# EAGLE library part EFM32_QGP100 (library LIBRARY)
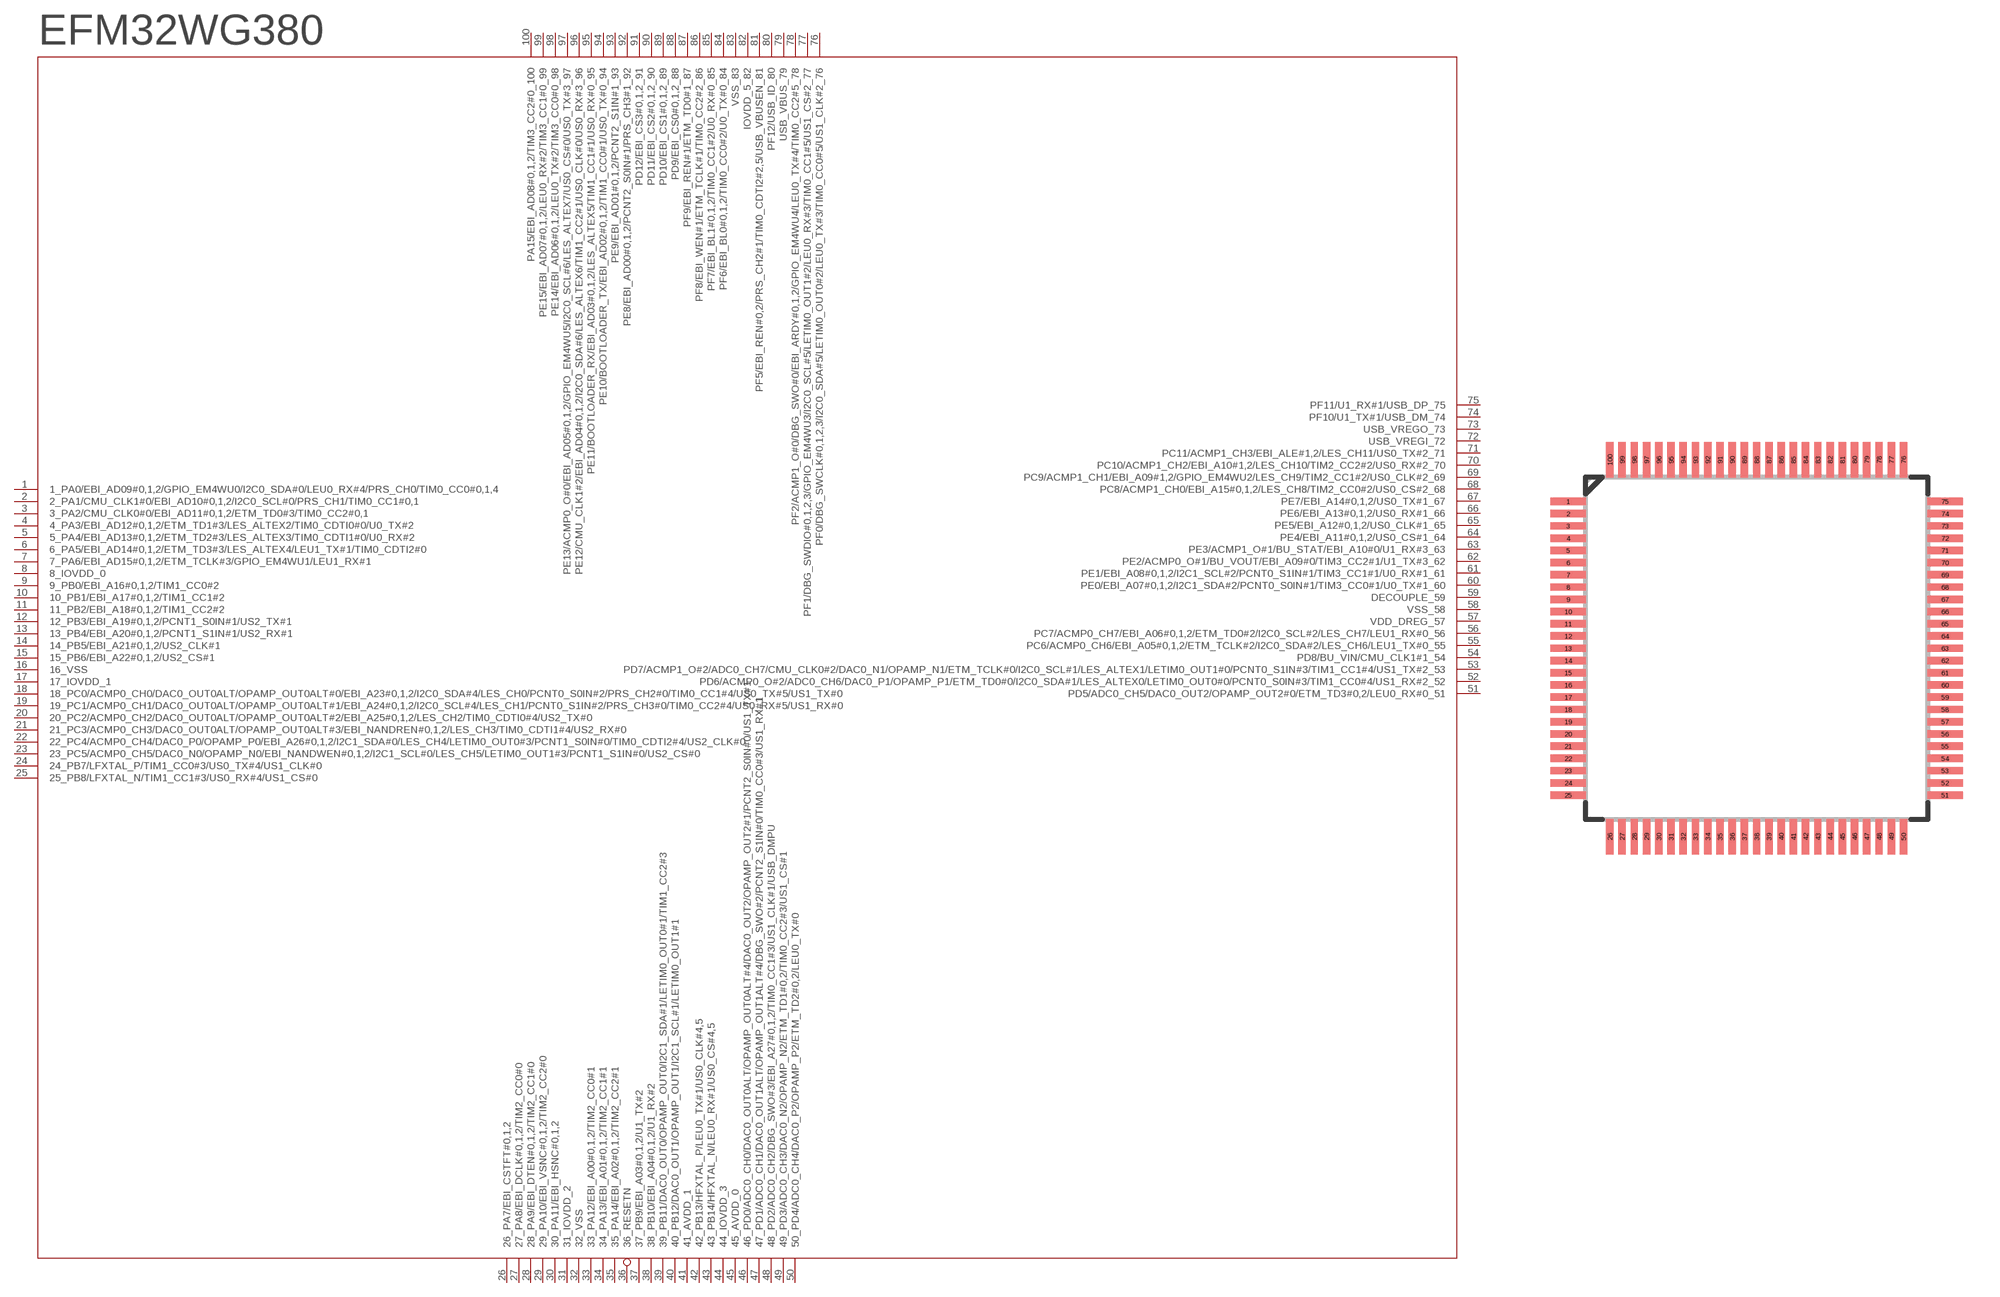
[diagram p9: symbol with the pads of EFM32_QFP100; footprint EFM32_QFP100]

Designator prefix -

## EFM32_QGP100  [EFM32_QFP100]
1  1_PA0/EBI_AD09#0,1,2/GPIO_EM4WU0/I2C0_SDA#0/LEU0_RX#4/PRS_CH0/TIM0_CC0#0,1,4
2  2_PA1/CMU_CLK1#0/EBI_AD10#0,1,2/I2C0_SCL#0/PRS_CH1/TIM0_CC1#0,1
3  3_PA2/CMU_CLK0#0/EBI_AD11#0,1,2/ETM_TD0#3/TIM0_CC2#0,1
4  4_PA3/EBI_AD12#0,1,2/ETM_TD1#3/LES_ALTEX2/TIM0_CDTI0#0/U0_TX#2
5  5_PA4/EBI_AD13#0,1,2/ETM_TD2#3/LES_ALTEX3/TIM0_CDTI1#0/U0_RX#2
6  6_PA5/EBI_AD14#0,1,2/ETM_TD3#3/LES_ALTEX4/LEU1_TX#1/TIM0_CDTI2#0
7  7_PA6/EBI_AD15#0,1,2/ETM_TCLK#3/GPIO_EM4WU1/LEU1_RX#1
8  8_IOVDD_0  pwr
9  9_PB0/EBI_A16#0,1,2/TIM1_CC0#2
10  10_PB1/EBI_A17#0,1,2/TIM1_CC1#2
11  11_PB2/EBI_A18#0,1,2/TIM1_CC2#2
12  12_PB3/EBI_A19#0,1,2/PCNT1_S0IN#1/US2_TX#1
13  13_PB4/EBI_A20#0,1,2/PCNT1_S1IN#1/US2_RX#1
14  14_PB5/EBI_A21#0,1,2/US2_CLK#1
15  15_PB6/EBI_A22#0,1,2/US2_CS#1
16  16_VSS  pwr
17  17_IOVDD_1  pwr
18  18_PC0/ACMP0_CH0/DAC0_OUT0ALT/OPAMP_OUT0ALT#0/EBI_A23#0,1,2/I2C0_SDA#4/LES_CH0/PCNT0_S0IN#2/PRS_CH2#0/TIM0_CC1#4/US0_TX#5/US1_TX#0
19  19_PC1/ACMP0_CH1/DAC0_OUT0ALT/OPAMP_OUT0ALT#1/EBI_A24#0,1,2/I2C0_SCL#4/LES_CH1/PCNT0_S1IN#2/PRS_CH3#0/TIM0_CC2#4/US0_RX#5/US1_RX#0
20  20_PC2/ACMP0_CH2/DAC0_OUT0ALT/OPAMP_OUT0ALT#2/EBI_A25#0,1,2/LES_CH2/TIM0_CDTI0#4/US2_TX#0
21  21_PC3/ACMP0_CH3/DAC0_OUT0ALT/OPAMP_OUT0ALT#3/EBI_NANDREN#0,1,2/LES_CH3/TIM0_CDTI1#4/US2_RX#0
22  22_PC4/ACMP0_CH4/DAC0_P0/OPAMP_P0/EBI_A26#0,1,2/I2C1_SDA#0/LES_CH4/LETIM0_OUT0#3/PCNT1_S0IN#0/TIM0_CDTI2#4/US2_CLK#0
23  23_PC5/ACMP0_CH5/DAC0_N0/OPAMP_N0/EBI_NANDWEN#0,1,2/I2C1_SCL#0/LES_CH5/LETIM0_OUT1#3/PCNT1_S1IN#0/US2_CS#0
24  24_PB7/LFXTAL_P/TIM1_CC0#3/US0_TX#4/US1_CLK#0
25  25_PB8/LFXTAL_N/TIM1_CC1#3/US0_RX#4/US1_CS#0
26  26_PA7/EBI_CSTFT#0,1,2
27  27_PA8/EBI_DCLK#0,1,2/TIM2_CC0#0
28  28_PA9/EBI_DTEN#0,1,2/TIM2_CC1#0
29  29_PA10/EBI_VSNC#0,1,2/TIM2_CC2#0
30  30_PA11/EBI_HSNC#0,1,2
31  31_IOVDD_2  pwr
32  32_VSS  pwr
33  33_PA12/EBI_A00#0,1,2/TIM2_CC0#1
34  34_PA13/EBI_A01#0,1,2/TIM2_CC1#1
35  35_PA14/EBI_A02#0,1,2/TIM2_CC2#1
36  36_RESETN  pas
37  37_PB9/EBI_A03#0,1,2/U1_TX#2
38  38_PB10/EBI_A04#0,1,2/U1_RX#2
39  39_PB11/DAC0_OUT0/OPAMP_OUT0/I2C1_SDA#1/LETIM0_OUT0#1/TIM1_CC2#3
40  40_PB12/DAC0_OUT1/OPAMP_OUT1/I2C1_SCL#1/LETIM0_OUT1#1
41  41_AVDD_1  pwr
42  42_PB13/HFXTAL_P/LEU0_TX#1/US0_CLK#4,5
43  43_PB14/HFXTAL_N/LEU0_RX#1/US0_CS#4,5
44  44_IOVDD_3  pwr
45  45_AVDD_0  pwr
46  46_PD0/ADC0_CH0/DAC0_OUT0ALT/OPAMP_OUT0ALT#4/DAC0_OUT2/OPAMP_OUT2#1/PCNT2_S0IN#0/US1_TX#1
47  47_PD1/ADC0_CH1/DAC0_OUT1ALT/OPAMP_OUT1ALT#4/DBG_SWO#2/PCNT2_S1IN#0/TIM0_CC0#3/US1_RX#1
48  48_PD2/ADC0_CH2/DBG_SWO#3/EBI_A27#0,1,2/TIM0_CC1#3/US1_CLK#1/USB_DMPU
49  49_PD3/ADC0_CH3/DAC0_N2/OPAMP_N2/ETM_TD1#0,2/TIM0_CC2#3/US1_CS#1
50  50_PD4/ADC0_CH4/DAC0_P2/OPAMP_P2/ETM_TD2#0,2/LEU0_TX#0
51  PD5/ADC0_CH5/DAC0_OUT2/OPAMP_OUT2#0/ETM_TD3#0,2/LEU0_RX#0_51
52  PD6/ACMP0_O#2/ADC0_CH6/DAC0_P1/OPAMP_P1/ETM_TD0#0/I2C0_SDA#1/LES_ALTEX0/LETIM0_OUT0#0/PCNT0_S0IN#3/TIM1_CC0#4/US1_RX#2_52
53  PD7/ACMP1_O#2/ADC0_CH7/CMU_CLK0#2/DAC0_N1/OPAMP_N1/ETM_TCLK#0/I2C0_SCL#1/LES_ALTEX1/LETIM0_OUT1#0/PCNT0_S1IN#3/TIM1_CC1#4/US1_TX#2_53
54  PD8/BU_VIN/CMU_CLK1#1_54
55  PC6/ACMP0_CH6/EBI_A05#0,1,2/ETM_TCLK#2/I2C0_SDA#2/LES_CH6/LEU1_TX#0_55
56  PC7/ACMP0_CH7/EBI_A06#0,1,2/ETM_TD0#2/I2C0_SCL#2/LES_CH7/LEU1_RX#0_56
57  VDD_DREG_57  pwr
58  VSS_58  pwr
59  DECOUPLE_59  pwr
60  PE0/EBI_A07#0,1,2/I2C1_SDA#2/PCNT0_S0IN#1/TIM3_CC0#1/U0_TX#1_60
61  PE1/EBI_A08#0,1,2/I2C1_SCL#2/PCNT0_S1IN#1/TIM3_CC1#1/U0_RX#1_61
62  PE2/ACMP0_O#1/BU_VOUT/EBI_A09#0/TIM3_CC2#1/U1_TX#3_62
63  PE3/ACMP1_O#1/BU_STAT/EBI_A10#0/U1_RX#3_63
64  PE4/EBI_A11#0,1,2/US0_CS#1_64
65  PE5/EBI_A12#0,1,2/US0_CLK#1_65
66  PE6/EBI_A13#0,1,2/US0_RX#1_66
67  PE7/EBI_A14#0,1,2/US0_TX#1_67
68  PC8/ACMP1_CH0/EBI_A15#0,1,2/LES_CH8/TIM2_CC0#2/US0_CS#2_68
69  PC9/ACMP1_CH1/EBI_A09#1,2/GPIO_EM4WU2/LES_CH9/TIM2_CC1#2/US0_CLK#2_69
70  PC10/ACMP1_CH2/EBI_A10#1,2/LES_CH10/TIM2_CC2#2/US0_RX#2_70
71  PC11/ACMP1_CH3/EBI_ALE#1,2/LES_CH11/US0_TX#2_71
72  USB_VREGI_72  pwr
73  USB_VREGO_73  pwr
74  PF10/U1_TX#1/USB_DM_74
75  PF11/U1_RX#1/USB_DP_75
76  PF0/DBG_SWCLK#0,1,2,3/I2C0_SDA#5/LETIM0_OUT0#2/LEU0_TX#3/TIM0_CC0#5/US1_CLK#2_76
77  PF1/DBG_SWDIO#0,1,2,3/GPIO_EM4WU3/I2C0_SCL#5/LETIM0_OUT1#2/LEU0_RX#3/TIM0_CC1#5/US1_CS#2_77
78  PF2/ACMP1_O#0/DBG_SWO#0/EBI_ARDY#0,1,2/GPIO_EM4WU4/LEU0_TX#4/TIM0_CC2#5_78
79  USB_VBUS_79  pwr
80  PF12/USB_ID_80
81  PF5/EBI_REN#0,2/PRS_CH2#1/TIM0_CDTI2#2,5/USB_VBUSEN_81
82  IOVDD_5_82  pwr
83  VSS_83  pwr
84  PF6/EBI_BL0#0,1,2/TIM0_CC0#2/U0_TX#0_84
85  PF7/EBI_BL1#0,1,2/TIM0_CC1#2/U0_RX#0_85
86  PF8/EBI_WEN#1/ETM_TCLK#1/TIM0_CC2#2_86
87  PF9/EBI_REN#1/ETM_TD0#1_87
88  PD9/EBI_CS0#0,1,2_88
89  PD10/EBI_CS1#0,1,2_89
90  PD11/EBI_CS2#0,1,2_90
91  PD12/EBI_CS3#0,1,2_91
92  PE8/EBI_AD00#0,1,2/PCNT2_S0IN#1/PRS_CH3#1_92
93  PE9/EBI_AD01#0,1,2/PCNT2_S1IN#1_93
94  PE10/BOOTLOADER_TX/EBI_AD02#0,1,2/TIM1_CC0#1/US0_TX#0_94
95  PE11/BOOTLOADER_RX/EBI_AD03#0,1,2/LES_ALTEX5/TIM1_CC1#1/US0_RX#0_95
96  PE12/CMU_CLK1#2/EBI_AD04#0,1,2/I2C0_SDA#6/LES_ALTEX6/TIM1_CC2#1/US0_CLK#0/US0_RX#3_96
97  PE13/ACMP0_O#0/EBI_AD05#0,1,2/GPIO_EM4WU5/I2C0_SCL#6/LES_ALTEX7/US0_CS#0/US0_TX#3_97
98  PE14/EBI_AD06#0,1,2/LEU0_TX#2/TIM3_CC0#0_98
99  PE15/EBI_AD07#0,1,2/LEU0_RX#2/TIM3_CC1#0_99
100  PA15/EBI_AD08#0,1,2/TIM3_CC2#0_100

## Footprint EFM32_QFP100 (pad centres in mm)
smd 1.45 x 0.3: 1 -7.7,6; 2 -7.7,5.5; 3 -7.7,5; 4 -7.7,4.5; 5 -7.7,4; 6 -7.7,3.5; 7 -7.7,3; 8 -7.7,2.5; 9 -7.7,2; 10 -7.7,1.5; 11 -7.7,1; 12 -7.7,0.5; 13 -7.7,0; 14 -7.7,-0.5; 15 -7.7,-1; 16 -7.7,-1.5; 17 -7.7,-2; 18 -7.7,-2.5; 19 -7.7,-3; 20 -7.7,-3.5; 21 -7.7,-4; 22 -7.7,-4.5; 23 -7.7,-5; 24 -7.7,-5.5; 25 -7.7,-6; 51 7.7,-6; 52 7.7,-5.5; 53 7.7,-5; 54 7.7,-4.5; 55 7.7,-4; 56 7.7,-3.5; 57 7.7,-3; 58 7.7,-2.5; 59 7.7,-2; 60 7.7,-1.5; 61 7.7,-1; 62 7.7,-0.5; 63 7.7,0; 64 7.7,0.5; 65 7.7,1; 66 7.7,1.5; 67 7.7,2; 68 7.7,2.5; 69 7.7,3; 70 7.7,3.5; 71 7.7,4; 72 7.7,4.5; 73 7.7,5; 74 7.7,5.5; 75 7.7,6
smd 0.3 x 1.45: 26 -6,-7.7; 27 -5.5,-7.7; 28 -5,-7.7; 29 -4.5,-7.7; 30 -4,-7.7; 31 -3.5,-7.7; 32 -3,-7.7; 33 -2.5,-7.7; 34 -2,-7.7; 35 -1.5,-7.7; 36 -1,-7.7; 37 -0.5,-7.7; 38 0,-7.7; 39 0.5,-7.7; 40 1,-7.7; 41 1.5,-7.7; 42 2,-7.7; 43 2.5,-7.7; 44 3,-7.7; 45 3.5,-7.7; 46 4,-7.7; 47 4.5,-7.7; 48 5,-7.7; 49 5.5,-7.7; 50 6,-7.7; 76 6,7.7; 77 5.5,7.7; 78 5,7.7; 79 4.5,7.7; 80 4,7.7; 81 3.5,7.7; 82 3,7.7; 83 2.5,7.7; 84 2,7.7; 85 1.5,7.7; 86 1,7.7; 87 0.5,7.7; 88 0,7.7; 89 -0.5,7.7; 90 -1,7.7; 91 -1.5,7.7; 92 -2,7.7; 93 -2.5,7.7; 94 -3,7.7; 95 -3.5,7.7; 96 -4,7.7; 97 -4.5,7.7; 98 -5,7.7; 99 -5.5,7.7; 100 -6,7.7